# EAGLE library part 750841243 (library Midcom Inc - EAGLE Lib V2-0)
Package Style: EPT20 Mounting: THT Pins: 10 pins Bobbin: 070-5669 Best pinouts for production vary per application. Please contact Wurth Electronics Midcom, Inc. for assistance with your custom design. Website: Wurth Electronics Midcom <http://www.we-online.com/midcom> Contact us Wurth Electronics Midcom, Inc. 121 Airport Dr. Watertown, SD 57201 Phone: (605) 886-4385 Fax: (605) 886-4486 E-Mail: midcom@we-online.com
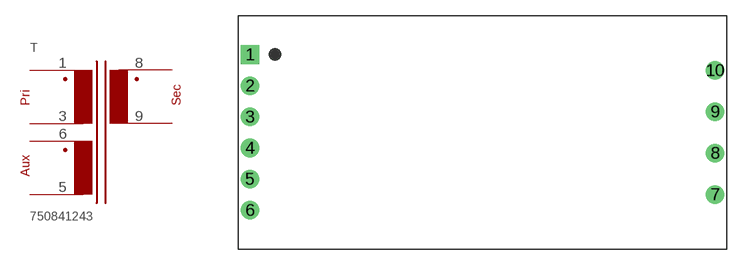
[diagram p262: symbol with the pads of EPT20_THT_H_10PIN_(5669); footprint EPT20_THT_H_10PIN_(5669)]

Designator prefix T

## 750841243  [EPT20_THT_H_10PIN_(5669)]
1  1  pas
3  3  pas
5  5  pas
6  6  pas
8  8  pas
9  9  pas

## Footprint EPT20_THT_H_10PIN_(5669) (pad centres in mm)
Package Style: EPT20 Mounting: THT Pins: 10 Bobbin: 070-5669
drill 1.194 square: 1 -22.352,7.493
drill 1.194: 2 -22.352,4.496; 3 -22.352,1.499; 4 -22.352,-1.499; 5 -22.352,-4.496; 6 -22.352,-7.493; 7 22.352,-5.982; 8 22.352,-1.994; 9 22.352,1.994; 10 22.352,5.982